# EAGLE library part DS1023-2_8S21 (library SamacSys_Parts)
Socket; pin strips; female; PIN:16; straight; 2.54mm; THT; 2x8; 3A Source: Datasheet <https://www.tme.eu/Document/efd0203e2d3a140765df98191085ea88/DS1023.pdf>
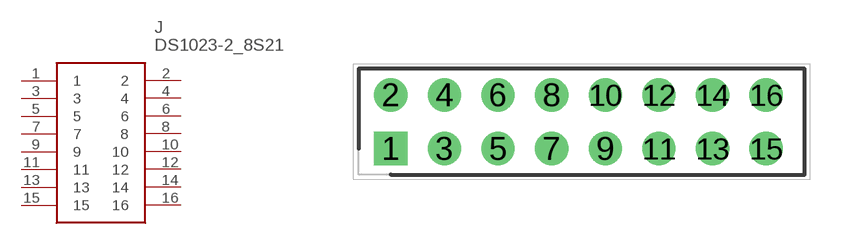
[diagram p4: symbol with the pads of RHDR16W60P254_2X8_2082X500X850; footprint RHDR16W60P254_2X8_2082X500X850]

Designator prefix J

## DS1023-2_8S21 (Arrow_Part_Number: DS1023-2*8S21; Description: Socket; pin strips; female; PIN:16; straight; 2.54mm; THT; 2x8; 3A; Height: 8.5mm; Manufacturer_Name: Connfly; Manufacturer_Part_Number: DS1023-2*8S21)  [RHDR16W60P254_2X8_2082X500X850]
1  1
2  2
3  3
4  4
5  5
6  6
7  7
8  8
9  9
10  10
11  11
12  12
13  13
14  14
15  15
16  16

## Footprint RHDR16W60P254_2X8_2082X500X850 (pad centres in mm)
DS1023-2*8S21
drill 1.05 pad 1.575 square: 1 0,0
drill 1.05 pad 1.575: 2 0,2.54; 3 2.54,0; 4 2.54,2.54; 5 5.08,0; 6 5.08,2.54; 7 7.62,0; 8 7.62,2.54; 9 10.16,0; 10 10.16,2.54; 11 12.7,0; 12 12.7,2.54; 13 15.24,0; 14 15.24,2.54; 15 17.78,0; 16 17.78,2.54